# Altium footprint library WE-LQS.PcbLib: 1 footprints
Each footprint in its own frame and in the unit in brackets; x right, y up, seen from the top. Pads: shape width x height; smd on the part's side, far side on the other; paste and mask are expansions set on the pad; w line width, h text height; cw(c..) or ccw(c..) is an arc to the next point about the centre after c.
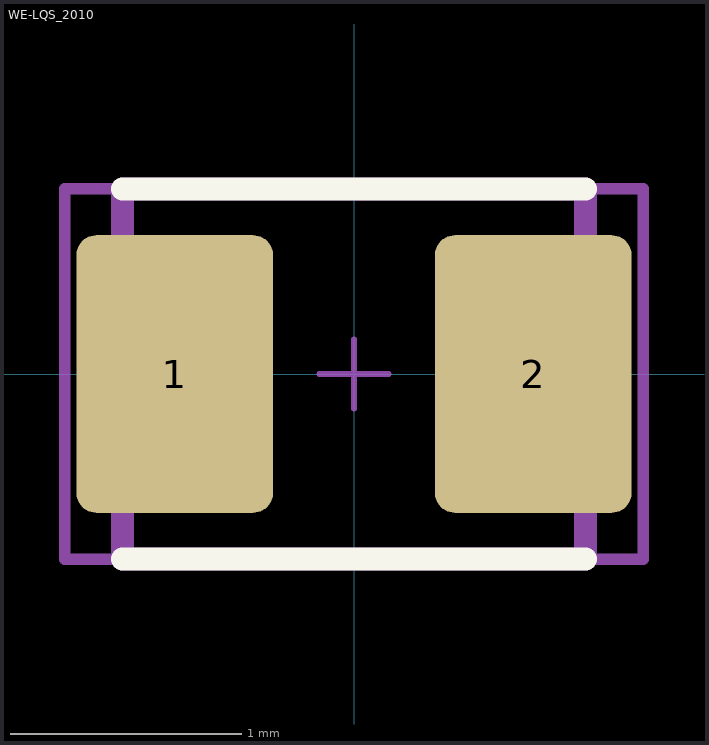
[diagram p0: the footprint, top view; thin cyan lines are the x and y axes]

## WE-LQS_2010 [mm] "SMD Power Inductor, 2-Leads, body 1.6x2.0mm"
height 1
pads (2):
  rrect20% 0.85x1.2 smd: 1(-0.775,0) 2(0.775,0)
Top Overlay:
  lines w0.1: -1,-0.8 1,-0.8 ; -1,0.8 1,0.8
Mechanical 13:
  lines w0.1: -1,-0.8 -1,0.8 1,0.8 1,-0.8 -1,-0.8
Mechanical 15:
  lines w0.025: -0.15,0 0.15,0 ; 0,-0.15 0,0.15
  lines w0.05: -1.25,-0.8 1.25,-0.8 1.25,0.8 -1.25,0.8 -1.25,-0.8
3D body "IndLQS_2010.stp": height 1, standoff 0, extent -1,-0.8 1,0.824